# Altium schematic symbol library TI_SN74LV08A_SOIC14.SchLib: 1 symbol
Pins are listed as number, name and electrical type; pins without a type are passive.

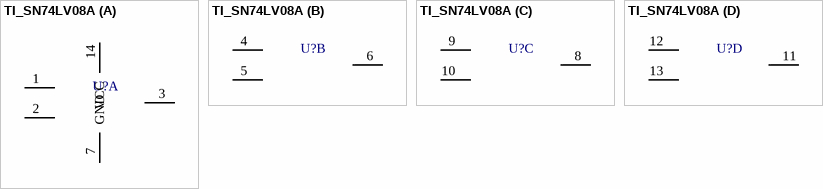
[diagram p0: symbol TI_SN74LV08A]

## TI_SN74LV08A
designator U?  (value not drawn)
AND GATE 4CH 2IN SOIC14; Supplier 1: Digikey; Supplier Part Number 1: 296-26531-6-ND
footprint SOIC127P600X175-14N (SOIC, 14-Leads, Body 8.65x3.90mm, Pitch 1.27mm, IPC Medium Density)
part A pins: 1, 2, 3, 7 GND, 14 VCC
part B pins: 4, 5, 6
part C pins: 8, 9, 10
part D pins: 11, 12, 13